# Altium integrated library turck.IntLib: 6 symbols
Pins are listed as number, name and electrical type; pins without a type are passive.

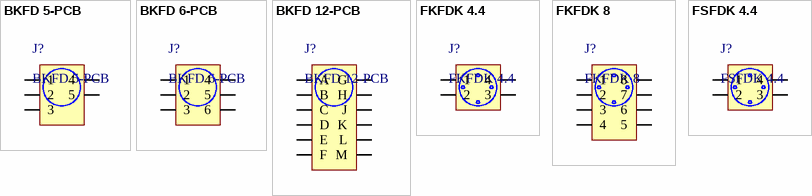
[diagram p0: symbols BKFD 5-PCB to FSFDK 4.4]

## BKFD 5-PCB
designator J?
5 Pin Receptacles, Rear Mount with PCB Pins
footprint BKFD 5-PCB
pins: 1, 2, 3, 4, 5

## BKFD 6-PCB
designator J?
6 Pin Receptacles, Rear Mount with PCB Pins
footprint BKFD 6-PCB
pins: 1, 2, 3, 4, 5, 6

## BKFD 12-PCB
designator J?
12 Pin Receptacles, Rear Mount with PCB Pins
footprint BKFD 12-PCB
pins: A, B, C, D, E, F, G, H, J, K, L, M

## FKFDK 4.4
designator J?
4 Pin Receptacles, Rear Mount with PCB Pins
footprint FKFDK 4.4
pins: 1, 2, 3, 4

## FKFDK 8
designator J?
8 Pin Receptacles, Rear Mount with PCB Pins
footprint FKFDK 8
pins: 1, 2, 3, 4, 5, 6, 7, 8

## FSFDK 4.4
designator J?
4 Pin Receptacles, Rear Mount with PCB Pins
footprint FSFDK 4.4
pins: 1, 2, 3, 4